# EAGLE library part FH36W-39S-0.3SHW(50) (library con-hirose-fh36-series)
HIROSE FH36 SERIES CATALOG <https://www.hirose.com/en/product/document?clcode=CL0580-1620-0-50&productname=FH36W-39S-0.3SHW(50)&series=FH36&documenttype=Catalog&lang=en&documentid=D49359_en> HIROSE FH36 PRODUCT PAGE <https://www.hirose.com/product/p/CL0580-1620-0-50#documentSection>
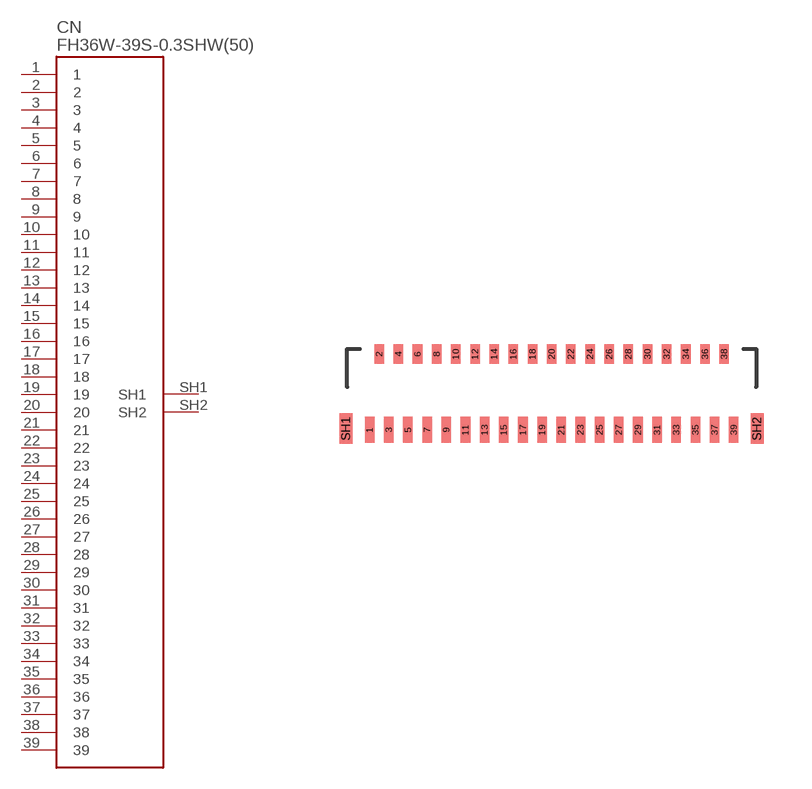
[diagram p12: symbol with the pads of FH36(W)-39; footprint FH36(W)-39]

Designator prefix CN

## FH36W-39S-0.3SHW(50)  [FH36(W)-39]
1  1
2  2
3  3
4  4
5  5
6  6
7  7
8  8
9  9
10  10
11  11
12  12
13  13
14  14
15  15
16  16
17  17
18  18
19  19
20  20
21  21
22  22
23  23
24  24
25  25
26  26
27  27
28  28
29  29
30  30
31  31
32  32
33  33
34  34
35  35
36  36
37  37
38  38
39  39
SH1  SH1
SH2  SH2

## Footprint FH36(W)-39 (pad centres in mm)
smd 0.3 x 0.8: 1 -5.7,-1.235; 3 -5.1,-1.235; 5 -4.5,-1.235; 7 -3.9,-1.235; 9 -3.3,-1.235; 11 -2.7,-1.235; 13 -2.1,-1.235; 15 -1.5,-1.235; 17 -0.9,-1.235; 19 -0.3,-1.235; 21 0.3,-1.235; 23 0.9,-1.235; 25 1.5,-1.235; 27 2.1,-1.235; 29 2.7,-1.235; 31 3.3,-1.235; 33 3.9,-1.235; 35 4.5,-1.235; 37 5.1,-1.235; 39 5.7,-1.235
smd 0.3 x 0.6: 2 -5.4,1.135; 4 -4.8,1.135; 6 -4.2,1.135; 8 -3.6,1.135; 10 -3,1.135; 12 -2.4,1.135; 14 -1.8,1.135; 16 -1.2,1.135; 18 -0.6,1.135; 20 0,1.135; 22 0.6,1.135; 24 1.2,1.135; 26 1.8,1.135; 28 2.4,1.135; 30 3,1.135; 32 3.6,1.135; 34 4.2,1.135; 36 4.8,1.135; 38 5.4,1.135
smd 0.4 x 0.95: SH1 -6.435,-1.2; SH2 6.435,-1.2